# Altium footprint library 镙钉式PCB接线端子.PcbLib: 3 footprints
Each footprint in its own frame and in the unit in brackets; x right, y up, seen from the top. Pads: shape width x height; smd on the part's side, far side on the other; paste and mask are expansions set on the pad; w line width, h text height; cw(c..) or ccw(c..) is an arc to the next point about the centre after c.
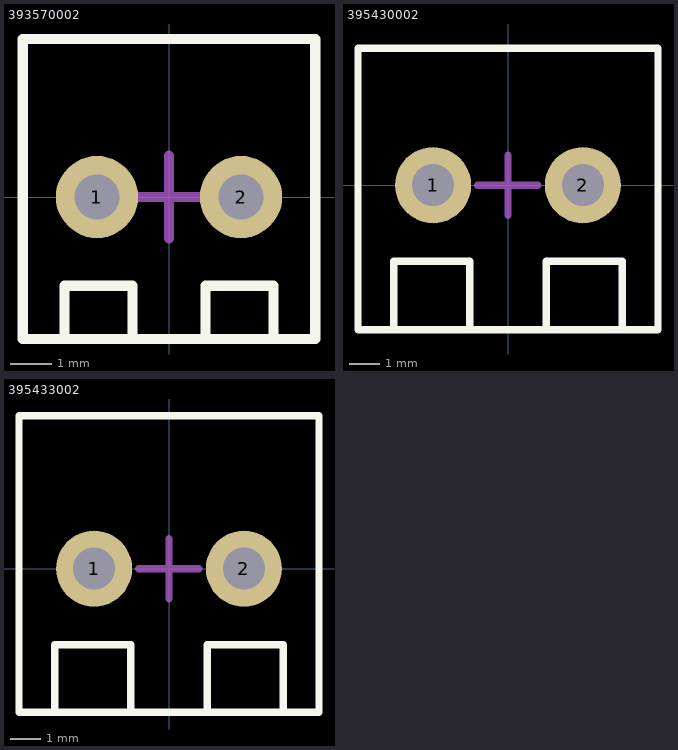
[diagram p0: the footprints below, top view; thin cyan lines are the x and y axes]

## 393570002 [mm]
pads (2):
  round 2 hole 1.1: 1(-1.75,0) 2(1.75,0)
Top Overlay:
  lines w0.25: -2.54,-3.45 -2.54,-2.159 -0.889,-2.159 -0.889,-3.45 ; 0.889,-3.45 0.889,-2.159 2.54,-2.159 2.54,-3.45 ; -3.556,-3.45 -3.556,3.84 3.556,3.84 3.556,-3.45 -3.556,-3.45
Mechanical 13:
  lines w0.1: -3.556,3.84 -3.556,-3.45 3.556,-3.45 3.556,3.84 -3.556,3.84
Mechanical 15:
  lines w0.25: -1.016,0 1,0 ; 0,-1 0,1
3D body: height 8.51, standoff -3.5, extent -3.556,-3.45 3.556,3.84

## 395430002 [mm]
pads (2):
  round 2.54 hole 1.4: 1(-2.5,0) 2(2.5,0)
Top Overlay:
  lines w0.25: -3.81,-4.826 -3.81,-2.54 -1.27,-2.54 -1.27,-4.826 ; 1.27,-4.826 1.27,-2.54 3.81,-2.54 3.81,-4.826 ; -5.004,-4.826 5.004,-4.826 5.004,4.572 -5.004,4.572 -5.004,-4.826
Mechanical 13:
  lines w0.1: -5.004,-4.826 5.004,-4.826 5.004,4.572 -5.004,4.572 -5.004,-4.826
Mechanical 15:
  lines w0.25: -1.016,0 1,0 ; 0,-1 0,1
3D body: height 14.53, standoff -3.53, extent -5.004,-4.826 5.004,4.572

## 395433002 [mm]
pads (2):
  round 2.54 hole 1.4: 1(-2.5,0) 2(2.5,0)
Top Overlay:
  lines w0.25: -3.81,-4.8 -3.81,-2.54 -1.27,-2.54 -1.27,-4.8 ; 1.27,-4.8 1.27,-2.54 3.81,-2.54 3.81,-4.8 ; -5.004,-4.8 5.004,-4.8 5.004,5.106 -5.004,5.106 -5.004,-4.8
Mechanical 13:
  lines w0.1: -5.004,-4.8 5.004,-4.8 5.004,-4.648 5.004,5.106 -5.004,5.106 -5.004,-4.8
Mechanical 15:
  lines w0.25: -1.016,0 1,0 ; 0,-1 0,1
3D body: height 14.5, standoff -3.02, extent -5.004,-4.8 5.004,5.106